# EAGLE library part WE-SPXO_IQXO-618-33 (library WE-SPXO)
WE-SPXO Simple Packaged Quartz Oscillator Characteristics SMT models Hermetically sealed Frequencies between 3.6864 MHz and 125 MHz Maximum operating temperatures range:-40 °C to 85 °C Stabilities down to ± 25 ppm available Available supply voltages: 1.8 V, 3.3 V and 5 V Available output signal types: CMOS; HCMOS; HCMOS/TTL Applications Microprocessor Wireless Communication Devices Industrial Devices Real Time Clocks Wired Communication (e.g. Ethernet and USB) IoT Optical Network Audio and Multimedia Devices Test and Measurement Equipment Navigation and Locators <https://www.we-online.com/catalog/media/o135918v209%20Family_WE-SPXO.jpg> Details see: https://www.we-online.com/catalog/en/WE-SPXO Created by Ella Wu, 2020-11-23 2020 (C) Wurth Elektronik
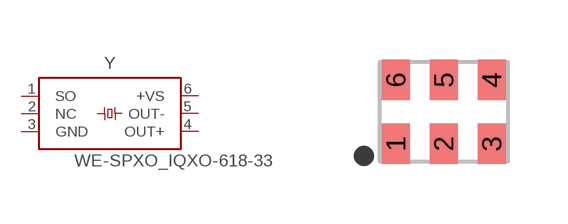
[diagram p2: symbol with the pads of WE-SPXO_IQXO-618-33; footprint WE-SPXO_IQXO-618-33]

Designator prefix Y

## WE-SPXO_IQXO-618-33_830208331709 (DATASHEET-URL: https://www.we-online.com/catalog/datasheet/830208331709.pdf; MOUNT: SMT; PART-NUMBER: 830208331709; STABILITY: 50ppm; V-SUPPLY: 3.3V; VALUE: 100MHz), WE-SPXO_IQXO-618-33_830208331909 (DATASHEET-URL: https://www.we-online.com/catalog/datasheet/830208331909.pdf; MOUNT: SMT; PART-NUMBER: 830208331909; STABILITY: 50ppm; V-SUPPLY: 3.3V; VALUE: 125MHz), WE-SPXO_IQXO-618-33_830208332009 (DATASHEET-URL: https://www.we-online.com/catalog/datasheet/830208332009.pdf; MOUNT: SMT; PART-NUMBER: 830208332009; STABILITY: 50ppm; V-SUPPLY: 3.3V; VALUE: 156.25MHz)  [WE-SPXO_IQXO-618-33]
1  SO  in
2  NC  out
3  GND  pwr
4  OUT+  out
5  OUT-  out
6  +VS  pwr

## Footprint WE-SPXO_IQXO-618-33 (pad centres in mm)
WE-SPXO Simple Packaged Quartz Oscillator Size : IQXO-618-33 L X W X H = 3.2mm X 2.5mm X 1.1mm
smd 0.7 x 1: 1 -1.2,-0.8; 2 0,-0.8; 3 1.2,-0.8; 4 1.2,0.8; 5 0,0.8; 6 -1.2,0.8